# EAGLE library part TPS63802 (library balto)
TPS63802 2-A, High-efficient, Low IQ Buck-boost Converter in DFN Package
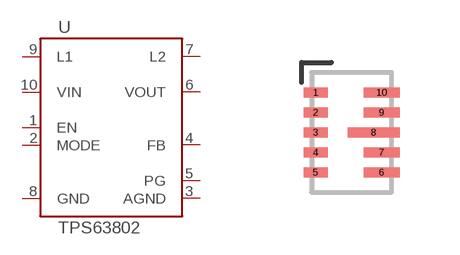
[diagram p78: symbol with the pads of VSON-HR-10; footprint VSON-HR-10]

Designator prefix U

## TPS63802  [VSON-HR-10]
1  EN
2  MODE
3  AGND
4  FB
5  PG
6  VOUT
7  L2
8  GND
9  L1
10  VIN

## Footprint VSON-HR-10 (pad centres in mm)
VSON-HR - 1 mm max height
smd 0.6 x 0.25: 1 -0.9,1; 2 -0.9,0.5; 3 -0.9,0; 4 -0.9,-0.5; 5 -0.9,-1
smd 0.9 x 0.25: 6 0.75,-1; 7 0.75,-0.5; 9 0.75,0.5; 10 0.75,1
smd 1.3 x 0.25: 8 0.55,0